# Altium integrated library Multi Turn 3296W-1-103LF.IntLib: 1 symbol
Pins are listed as number, name and electrical type; pins without a type are passive.

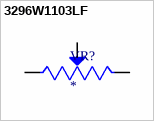
[diagram p0: symbol 3296W1103LF]

## 3296W1103LF
designator VR?
Trimmer, Potentiometer 10kohm 25turn Thd; MP: 3296W1103LF; MF: Bourns; Package: None; Check_prices: https://www.snapeda.com/parts/3296W1103LF/Bourns/view-part/2487625/?ref=eda; Availability: Unavailable; Price: None; Value: *; SnapEDA_Link: https://www.snapeda.com/parts/3296W1103LF/Bourns/view-part/2487625/?ref=snap
footprint TRIM_3296W1103LF
pins: 1 CCW, 2 WIPER, 3 CW